# EAGLE library part TPS26630 (library HyTechDevices)
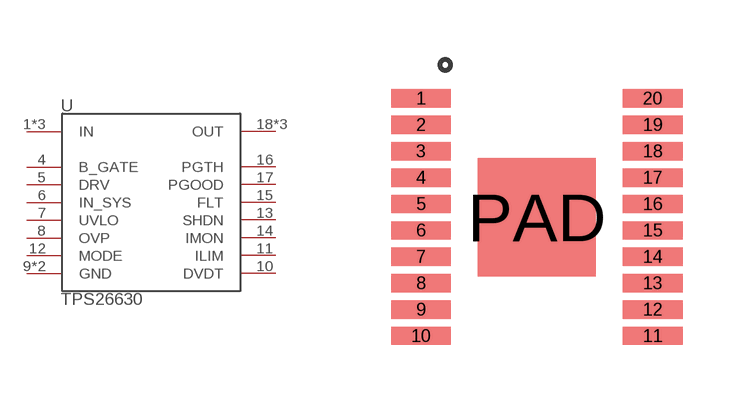
[diagram p39: symbol with the pads of HTSSOP-20; footprint HTSSOP-20]

Designator prefix -

## TPS26630  [HTSSOP-20]
1  IN
2  IN
3  IN
4  B_GATE
5  DRV
6  IN_SYS
7  UVLO
8  OVP
9  GND
10  DVDT
11  ILIM
12  MODE
13  SHDN
14  IMON
15  FLT
16  PGTH
17  PGOOD
18  OUT
19  OUT
20  OUT
PAD  GND

## Footprint HTSSOP-20 (pad centres in mm)
smd 1.499 x 0.457: 1 -2.896,2.972; 2 -2.896,2.311; 3 -2.896,1.651; 4 -2.896,0.991; 5 -2.896,0.33; 6 -2.896,-0.33; 7 -2.896,-0.991; 8 -2.896,-1.651; 9 -2.896,-2.311; 10 -2.896,-2.972; 11 2.896,-2.972; 12 2.896,-2.311; 13 2.896,-1.651; 14 2.896,-0.991; 15 2.896,-0.33; 16 2.896,0.33; 17 2.896,0.991; 18 2.896,1.651; 19 2.896,2.311; 20 2.896,2.972
smd 2.959 x 2.959: PAD 0,0